# EAGLE library part CCG15 (library dc-dc-converter)
DC DC CONVERTER TDK/LAMBDA
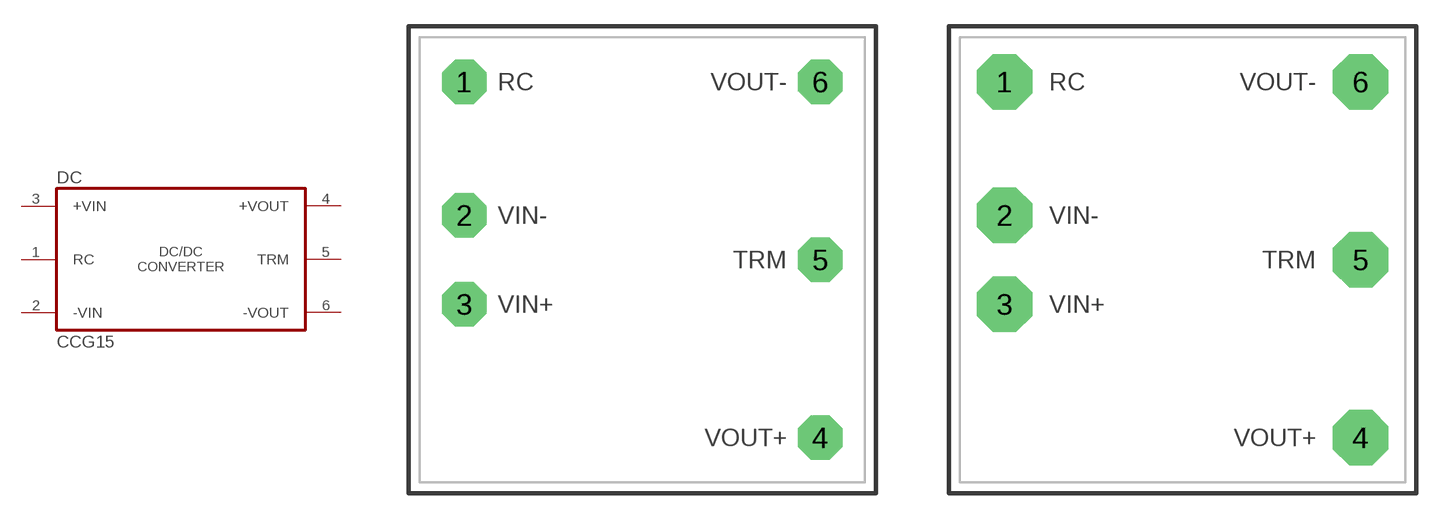
[diagram p15: symbol with the pads of CCG15; footprints CCG15, CCD15_S]

Designator prefix DC

## CCG15  [CCG15]
1  RC  pas
2  -VIN  pas
3  +VIN  pas
4  +VOUT  pas
5  TRM  pas
6  -VOUT  pas

## CCG15_S  [CCD15_S]
Pads as for CCG15

## Footprint CCG15 (pad centres in mm)
LAMBDA POWER MODULE Solder package pins to footprint pads
drill 1.27 pad 2.54 octagon: 1 -10.16,10.16; 2 -10.16,2.54; 3 -10.16,-2.54; 4 10.16,-10.16; 5 10.16,0; 6 10.16,10.16

## Footprint CCD15_S (pad centres in mm)
LAMBDA POWER MODULE Accepts TE/AMP pin sockets 5645518-1 Socket 0.038 ~ 0.042 in (0.97mm ~ 1.07mm)
drill 1.93 pad 3.175 octagon: 1 -10.16,10.16; 2 -10.16,2.54; 3 -10.16,-2.54; 4 10.16,-10.16; 5 10.16,0; 6 10.16,10.16